# EAGLE library part SENSOR_CON_5PIN (library pie)
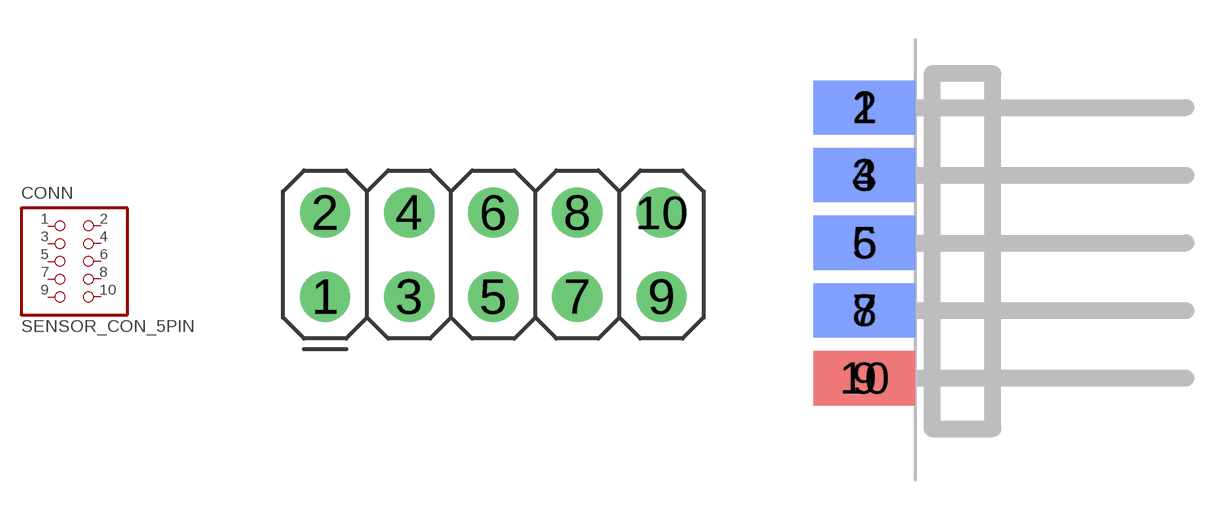
[diagram p29: symbol with the pads of 2X5; footprints 2X5, 2X5-EDGE]

Designator prefix CONN

## SENSOR_CON_5PINPTH  [2X5]
1  1  pas
2  2  pas
3  3  pas
4  4  pas
5  5  pas
6  6  pas
7  7  pas
8  8  pas
9  9  pas
10  10  pas

## SENSOR_CON_5PINSMD-EDGE  [2X5-EDGE]
Pads as for 2X5

## SENSOR_CON_5PINPTH-SHROUDED  [2X5_SHROUDED]
Pads as for 2X5

## Footprint 2X5 (pad centres in mm)
2x5-pin 0.1-inch header Pololu page <https://www.pololu.com/product/966> Drawings <http://multimedia.3m.com/mws/media/548112O/3mtm-pin-strip-header-ts2181.pdf>
drill 1.016 pad 1.524: 1 -5.08,-1.27; 2 -5.08,1.27; 3 -2.54,-1.27; 4 -2.54,1.27; 5 0,-1.27; 6 0,1.27; 7 2.54,-1.27; 8 2.54,1.27; 9 5.08,-1.27; 10 5.08,1.27

## Footprint 2X5-EDGE (pad centres in mm)
2x5-pin 0.1-inch header Pololu page <https://www.pololu.com/product/966> Drawings <http://multimedia.3m.com/mws/media/548112O/3mtm-pin-strip-header-ts2181.pdf>
smd 3.81 x 2.032: 1 -2.54,5.08; 3 -2.54,2.54; 5 -2.54,0; 7 -2.54,-2.54; 10 -2.54,-5.08
smd 3.81 x 2.032 bottom: 2 -2.54,5.08; 4 -2.54,2.54; 6 -2.54,0; 8 -2.54,-2.54; 9 -2.54,-5.08

## Footprint 2X5_SHROUDED (pad centres in mm)
2x5 Shrouded Connector 0.1" pitch.
drill 1.016 pad 1.524: 1 -5.08,-1.27; 2 -5.08,1.27; 3 -2.54,-1.27; 4 -2.54,1.27; 5 0,-1.27; 6 0,1.27; 7 2.54,-1.27; 8 2.54,1.27; 9 5.08,-1.27; 10 5.08,1.27